# EAGLE library part ATTINY261 (library custom)
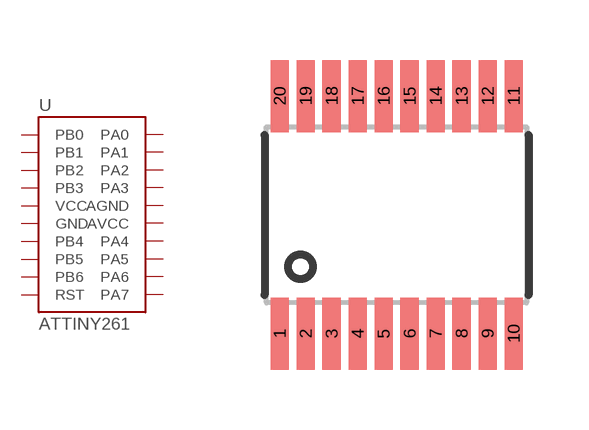
[diagram p122: symbol with the pads of 20-TSSOP; footprint 20-TSSOP]

Designator prefix U

## ATTINY261  [20-TSSOP]
1  PB0
2  PB1
3  PB2
4  PB3
5  VCC
6  GND
7  PB4
8  PB5
9  PB6
10  RST
11  PA7
12  PA6
13  PA5
14  PA4
15  AVCC
16  AGND
17  PA3
18  PA2
19  PA1
20  PA0

## Footprint 20-TSSOP (pad centres in mm)
smd 0.45 x 1.8: 1 -2.925,-2.97; 2 -2.275,-2.97; 3 -1.625,-2.97; 4 -0.975,-2.97; 5 -0.325,-2.97; 6 0.325,-2.97; 7 0.975,-2.97; 8 1.625,-2.97; 9 2.275,-2.97; 10 2.925,-2.97; 11 2.925,2.97; 12 2.275,2.97; 13 1.625,2.97; 14 0.975,2.97; 15 0.325,2.97; 16 -0.325,2.97; 17 -0.975,2.97; 18 -1.625,2.97; 19 -2.275,2.97; 20 -2.925,2.97